# EAGLE library part LT1616 (library _mtvl.power)
LT1616 - 600mA, 1.4MHz Step-Down Switching Regulator in SOT-23 Wide Input Range: 3.6V to 25V 5V at 400mA from7V to 25V Input 3.3V at 400mA from 4.7V to 25V Input Fixed Frequency 1.4MHz Operation Uses Tiny Capacitors and Inductors Internally Compensated Low Shutdown Current: <1µA Low VCESAT Switch: 220mV at 300mA Tiny 6-Lead SOT-23 Package
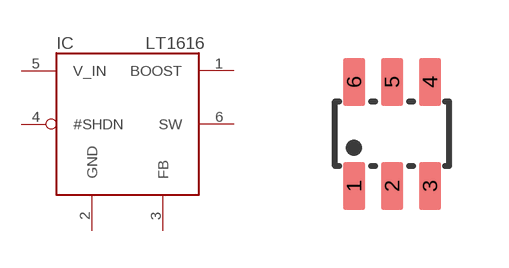
[diagram p8: symbol with the pads of SOT23-6; footprint SOT23-6]

Designator prefix IC

## LT1616  [SOT23-6]
1  BOOST  pas
2  GND  pwr
3  FB  pas
4  #SHDN  pas
5  V_IN  pas
6  SW  pas

## Footprint SOT23-6 (pad centres in mm)
smd 0.55 x 1.2: 1 -0.95,-1.3; 2 0,-1.3; 3 0.95,-1.3; 4 0.95,1.3; 5 0,1.3; 6 -0.95,1.3